# Altium schematic symbol library Schlib1.SchLib: 2 symbols
Pins are listed as number, name and electrical type; pins without a type are passive.

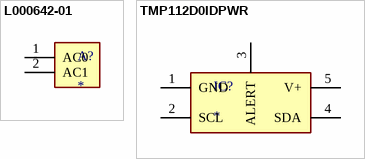
[diagram p0: symbols L000642-01 to TMP112D0IDPWR]

## L000642-01
designator A?
Antena NFC 13.56MHz
pins: 1 AC0, 2 AC1

## TMP112D0IDPWR
designator IC?
Integrated Circuit
pins: 1 GND (power), 2 SCL, 3 ALERT, 4 SDA, 5 V+ (power)